# EAGLE library part ADE9000 (library ADE9000)
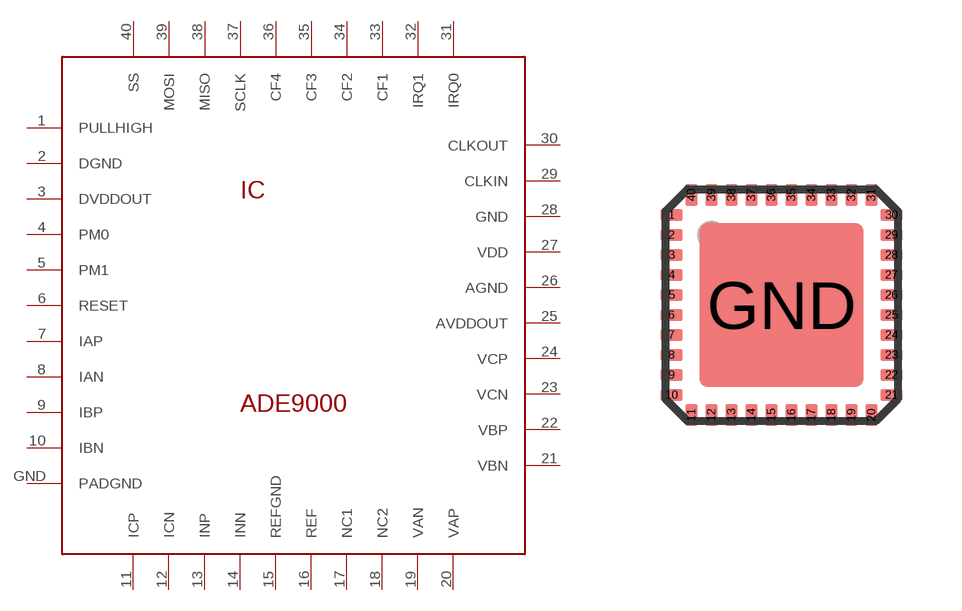
[diagram p0: symbol with the pads of LFCSP40; footprint LFCSP40]

Designator prefix IC

## ADE9000  [LFCSP40]
1  PULLHIGH
2  DGND
3  DVDDOUT
4  PM0
5  PM1
6  RESET
7  IAP
8  IAN
9  IBP
10  IBN
11  ICP
12  ICN
13  INP
14  INN
15  REFGND
16  REF
17  NC1
18  NC2
19  VAN
20  VAP
21  VBN
22  VBP
23  VCN
24  VCP
25  AVDDOUT
26  AGND
27  VDD
28  GND
29  CLKIN
30  CLKOUT
31  IRQ0
32  IRQ1
33  CF1
34  CF2
35  CF3
36  CF4
37  SCLK
38  MISO
39  MOSI
40  SS
GND  PADGND

## Footprint LFCSP40 (pad centres in mm)
40-Lead Frame Chip Scale Package [LFCSP_VQ] 6 mm x 6 mm Body, Very Thin Quad (CP-40) COMPLIANT TO JEDEC STANDARDS MO-220-VJJD-2 Source: http://www.analog.com/UploadedFiles/Data_Sheets/288945048AD7C7019_20_1_2_4_5_6_7_0.pdf
smd 0.55 x 0.3: 1 -2.75,2.25; 2 -2.75,1.75; 3 -2.75,1.25; 4 -2.75,0.75; 5 -2.75,0.25; 6 -2.75,-0.25; 7 -2.75,-0.75; 8 -2.75,-1.25; 9 -2.75,-1.75; 10 -2.75,-2.25; 21 2.75,-2.25; 22 2.75,-1.75; 23 2.75,-1.25; 24 2.75,-0.75; 25 2.75,-0.25; 26 2.75,0.25; 27 2.75,0.75; 28 2.75,1.25; 29 2.75,1.75; 30 2.75,2.25
smd 0.3 x 0.55: 11 -2.25,-2.75; 12 -1.75,-2.75; 13 -1.25,-2.75; 14 -0.75,-2.75; 15 -0.25,-2.75; 16 0.25,-2.75; 17 0.75,-2.75; 18 1.25,-2.75; 19 1.75,-2.75; 20 2.25,-2.75; 31 2.25,2.75; 32 1.75,2.75; 33 1.25,2.75; 34 0.75,2.75; 35 0.25,2.75; 36 -0.25,2.75; 37 -0.75,2.75; 38 -1.25,2.75; 39 -1.75,2.75; 40 -2.25,2.75
smd 4.1 x 4.1: GND 0,0